# EAGLE library part TPL5110DDCR (library Library_Mateusz.Kowalec)
Timers & Support Products Ultr LowPowrTimerMOS drivr MOSFET Powr Source: Datasheet <https://www.ti.com/lit/ds/symlink/tpl5110.pdf?ts=1591886006313&ref_url=https://www.ti.com/store/ti/en/p/product/?p=TPL5110DDCR>
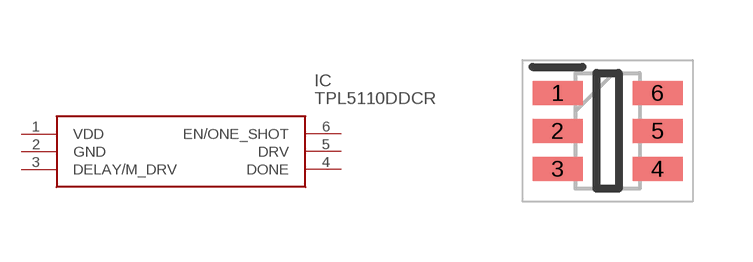
[diagram p0: symbol with the pads of SOT95P280X110-6N; footprint SOT95P280X110-6N]

Designator prefix IC

## TPL5110DDCR (DESCRIPTION: Timers & Support Products Ultr LowPowrTimerMOS drivr MOSFET Powr; HEIGHT: 1.1mm; MANUFACTURER_NAME: Texas Instruments; MANUFACTURER_PART_NUMBER: TPL5110DDCR; MOUSER_PART_NUMBER: 595-TPL5110DDCR; MOUSER_PRICE-STOCK: https://www.mouser.co.uk/ProductDetail/Texas-Instruments/TPL5110DDCR?qs=beZBGHSk9c0piUt1%2Ff2GSg%3D%3D)  [SOT95P280X110-6N]
1  VDD
2  GND
3  DELAY/M_DRV
4  DONE
5  DRV
6  EN/ONE_SHOT

## Footprint SOT95P280X110-6N (pad centres in mm)
DDC0006A
smd 1.25 x 0.6: 1 -1.25,0.95; 2 -1.25,0; 3 -1.25,-0.95; 4 1.25,-0.95; 5 1.25,0; 6 1.25,0.95